# Altium footprint library 1-1674231-1.PcbLib: 1 footprints
Each footprint in its own frame and in the unit in brackets; x right, y up, seen from the top. Pads: shape width x height; smd on the part's side, far side on the other; paste and mask are expansions set on the pad; w line width, h text height; cw(c..) or ccw(c..) is an arc to the next point about the centre after c.
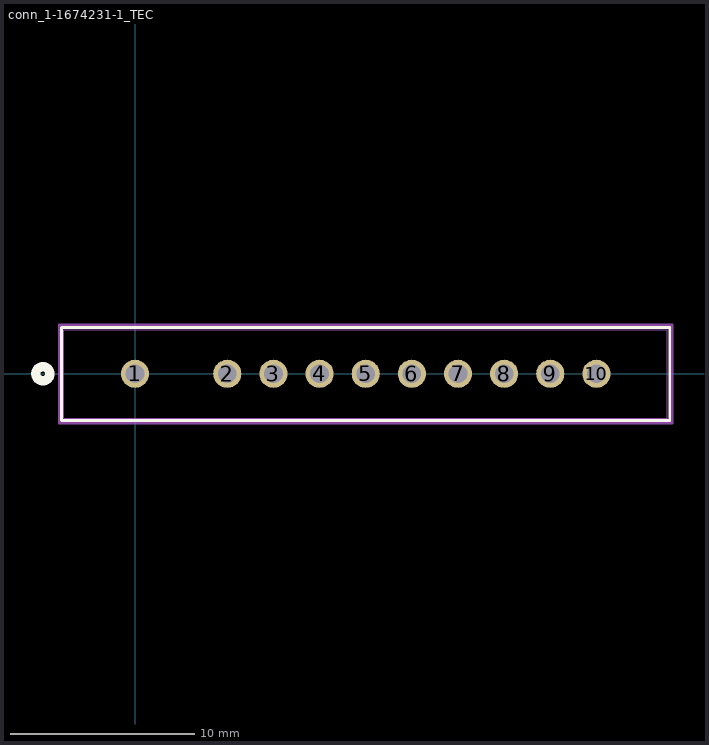
[diagram p0: the footprint, top view; thin cyan lines are the x and y axes]

## conn_1-1674231-1_TEC [mil]
pads (10):
  round 60 hole 40 paste-99999 mask+0: 1(0,0) 2(196.85,0) 3(295.28,0) 4(393.7,0) 5(492.13,0) 6(590.55,0) 7(688.98,0) 8(787.4,0) 9(885.83,0) 10(984.25,0)
Top Overlay:
  circle w20: c-196.58,0 r15
  lines w6: -156.58,-99.98 -156.58,99 1140.83,99 1140.83,-99.98 -156.58,-99.98
Bottom Overlay:
  circle w20: c-196.58,0 r15
Mechanical 13:
  lines w1: -151.58,-94.98 -151.58,94 1135.83,94 1135.83,-94.98 -151.58,-94.98
Mechanical 15:
  lines w6: -161.58,-104.98 1145.83,-104.98 1145.83,104 -161.58,104 -161.58,-104.98
3D body "c-1-1674231-1-e1-3d.stp": height 0, standoff -344.49, extent -151.57,-94.49 1135.83,94.49